# Altium footprint library GeneralComponents.PcbLib: 28 footprints (part 2 of 2)
Each footprint in its own frame and in the unit in brackets; x right, y up, seen from the top. Pads: shape width x height; smd on the part's side, far side on the other; paste and mask are expansions set on the pad; w line width, h text height; cw(c..) or ccw(c..) is an arc to the next point about the centre after c.
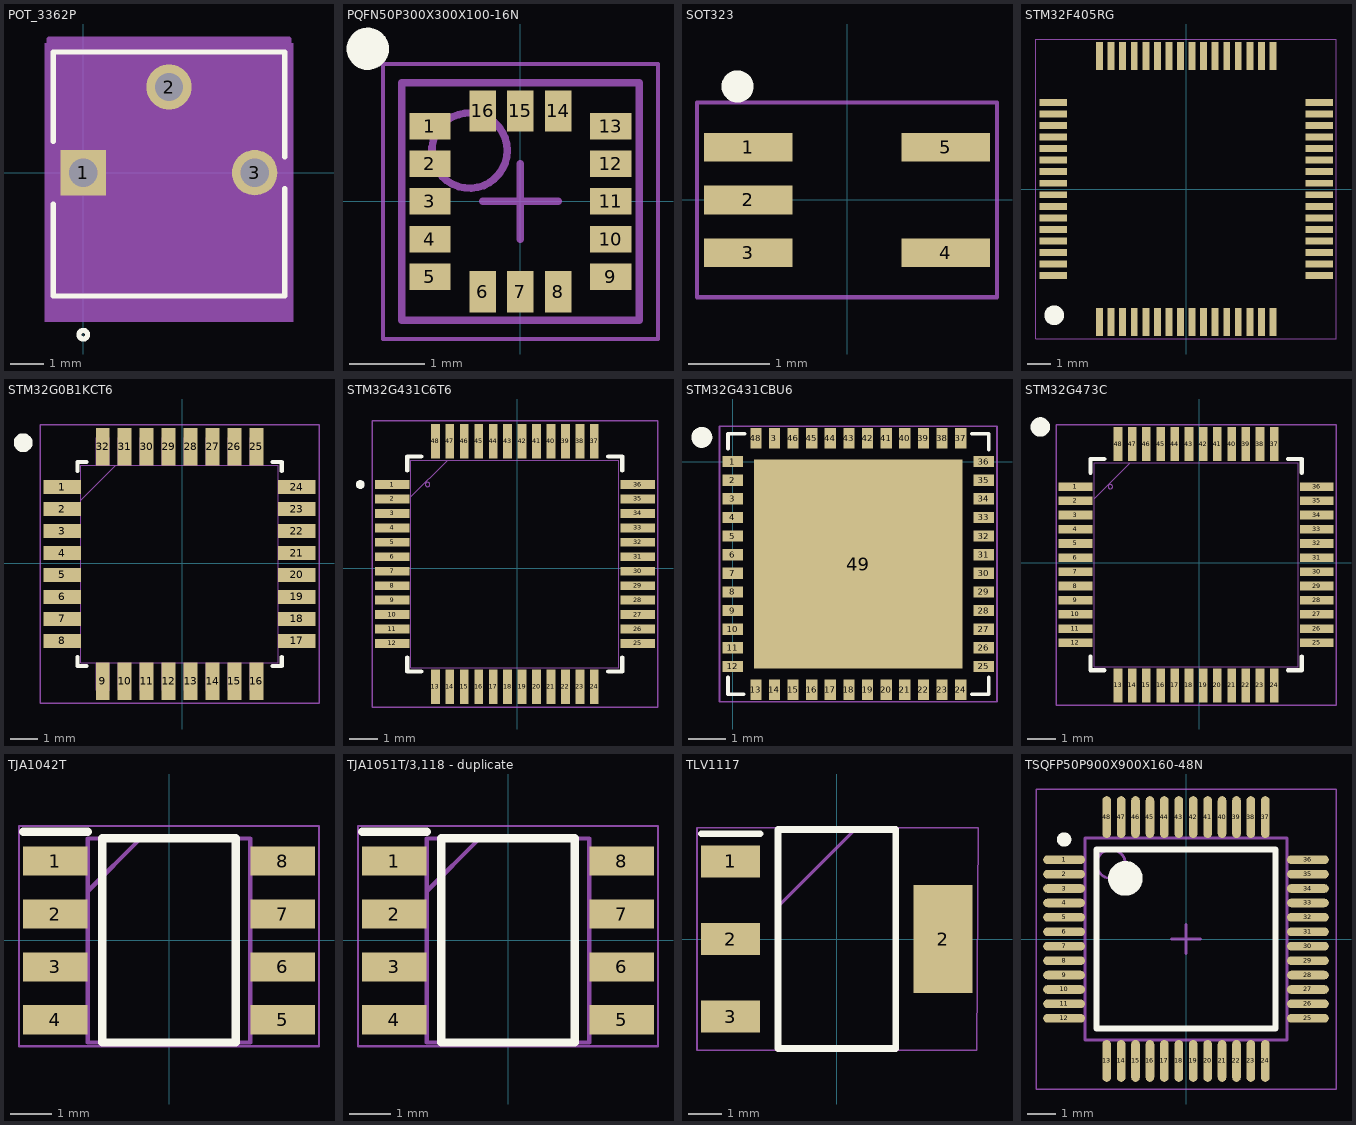
[diagram p1: the footprints below, top view; thin cyan lines are the x and y axes]

## POT_3362P [mil]
pads (3):
  rect 53x53 hole 33 mask+0: 1(0,0)
  round 53 hole 33 mask+0: 2(100,100) 3(200,0)
Top Overlay:
  circle w6: c0,-189 r5
  lines w6: -35,-36.47 -35,-144 235,-144 235,-18.52 ; -35,36.47 -35,141 235,141 235,18.52
Mechanical 5:
  region: -45,151 245,151 245,-174 -45,-174
Mechanical 13:
  circle w0: c0,-129 r5
  lines w1: -30,-139 230,-139 230,136 -30,136 -30,-139
Mechanical 15:
  region: 240,-159 -40,-159 -40,156 240,156
  lines w6: -40,-159 -40,156 240,156 240,-159 -40,-159
3D body: height 10, standoff 0, extent 0,0 10,10

## PQFN50P300X300X100-16N [mm] "PQFN, 16-Leads, Body 3.00x3.00mm, Pitch 0.50mm, IPC Medium Density"
height 1
pads (16):
  rect 0.55x0.35 smd: 1(-1.2,1) 2(-1.2,0.5) 3(-1.2,0) 4(-1.2,-0.5) 5(-1.2,-1) 9(1.2,-1) 10(1.2,-0.5) 11(1.2,0) 12(1.2,0.5) 13(1.2,1)
  rect 0.35x0.55 smd: 6(-0.5,-1.2) 7(0,-1.2) 8(0.5,-1.2) 14(0.5,1.2) 15(0,1.2) 16(-0.5,1.2)
Top Overlay:
  circle w0.3: c-2.025,2.025 r0.13
Mechanical 13:
  circle w0.1: c-0.675,0.675 r0.5
  lines w0.1: -1.575,-1.575 1.575,-1.575 1.575,1.575 -1.575,1.575 -1.575,-1.575
Mechanical 15:
  lines w0.05: -1.825,-1.825 1.825,-1.825 1.825,1.825 -1.825,1.825 -1.825,-1.825
  lines w0.1: -0.5,0 0.5,0 ; 0,-0.5 0,0.5
3D body "PQFN50P300X300X100-16N.step": height 1, standoff 0, extent -1.575,-1.575 1.575,1.575

## SOT323 [mil]
pads (5):
  rect 43x14 smd paste+0 mask+0: 1(-48,25.6) 2(-48,0) 3(-48,-25.6) 4(48,-25.6) 5(48,25.6)
Top Overlay:
  circle w10: c-53.15,55.12 r2.78
Mechanical 15:
  lines w1.97: -72.83,-47.24 72.83,-47.24 72.83,47.24 -72.83,47.24 -72.83,29.53 -72.83,-47.24
3D body "SOT323_TS4436AICT_STM.step": height 43.11, standoff 0, extent -47.52,-43.5 47.52,43.5

## STM32F405RG [mm]
pads (64):
  rect 0.3x1.2 smd: 1(-3.75,-5.75) 2(-3.25,-5.75) 3(-2.75,-5.75) 4(-2.25,-5.75) 5(-1.75,-5.75) 6(-1.25,-5.75) 7(-0.75,-5.75) 8(-0.25,-5.75) 9(0.25,-5.75) 10(0.75,-5.75) 11(1.25,-5.75) 12(1.75,-5.75) 13(2.25,-5.75) 14(2.75,-5.75) 15(3.25,-5.75) 16(3.75,-5.75) 33(3.75,5.75) 34(3.25,5.75) 35(2.75,5.75) 36(2.25,5.75) 37(1.75,5.75) 38(1.25,5.75) 39(0.75,5.75) 40(0.25,5.75) 41(-0.25,5.75) 42(-0.75,5.75) 43(-1.25,5.75) 44(-1.75,5.75) 45(-2.25,5.75) 46(-2.75,5.75) 47(-3.25,5.75) 48(-3.75,5.75)
  rect 1.2x0.3 smd: 17(5.75,-3.75) 18(5.75,-3.25) 19(5.75,-2.75) 20(5.75,-2.25) 21(5.75,-1.75) 22(5.75,-1.25) 23(5.75,-0.75) 24(5.75,-0.25) 25(5.75,0.25) 26(5.75,0.75) 27(5.75,1.25) 28(5.75,1.75) 29(5.75,2.25) 30(5.75,2.75) 31(5.75,3.25) 32(5.75,3.75) 49(-5.75,3.75) 50(-5.75,3.25) 51(-5.75,2.75) 52(-5.75,2.25) 53(-5.75,1.75) 54(-5.75,1.25) 55(-5.75,0.75) 56(-5.75,0.25) 57(-5.75,-0.25) 58(-5.75,-0.75) 59(-5.75,-1.25) 60(-5.75,-1.75) 61(-5.75,-2.25) 62(-5.75,-2.75) 63(-5.75,-3.25) 64(-5.75,-3.75)
Top Overlay:
  circle w0.7: c-5.715,-5.461 r0.075
Mechanical 15:
  lines w0.05: -6.5,-6.477 -6.5,6.477 6.477,6.477 6.477,-6.477 -6.5,-6.477
3D body "LQFP-64_10x10mm_P0.5mm.step": height 1.5, standoff 0, extent -6,-6 6,6

## STM32G0B1KCT6 [mil]
pads (32):
  rect 53.5x20 smd paste+0 mask+4.02: 1(-172.23,109.42) 2(-172.23,77.92) 3(-172.23,46.42) 4(-172.23,14.92) 5(-172.23,-16.58) 6(-172.23,-48.08) 7(-172.23,-79.58) 8(-172.23,-111.08) 17(164.27,-111.08) 18(164.27,-79.58) 19(164.27,-48.08) 20(164.27,-16.58) 21(164.27,14.92) 22(164.27,46.42) 23(164.27,77.92) 24(164.27,109.42)
  rect 20x53.5 smd paste+0 mask+4.02: 9(-114.23,-169.08) 10(-82.73,-169.08) 11(-51.23,-169.08) 12(-19.73,-169.08) 13(11.77,-169.08) 14(43.27,-169.08) 15(74.77,-169.08) 16(106.27,-169.08) 25(106.27,167.42) 26(74.77,167.42) 27(43.27,167.42) 28(11.77,167.42) 29(-19.73,167.42) 30(-51.23,167.42) 31(-82.73,167.42) 32(-114.23,167.42)
Top Overlay:
  circle w15: c-228.35,173.23 r6
  lines w6: -150.48,-134.18 -150.48,-147.33 -137.33,-147.33 ; -150.48,132.52 -150.48,145.67 -137.33,145.67 ; 129.37,-147.33 142.52,-147.33 142.52,-134.18 ; 129.37,145.67 142.52,145.67 142.52,132.52
Mechanical 13:
  lines w1: -145.48,90.67 -95.48,140.67 ; -184.98,-120.08 -184.98,-102.08 -145.48,-102.08 -145.48,-120.08 -184.98,-120.08 ; -184.98,-88.58 -184.98,-70.58 -145.48,-70.58 -145.48,-88.58 -184.98,-88.58 ; -184.98,-57.08 -184.98,-39.08 -145.48,-39.08 -145.48,-57.08 -184.98,-57.08 ; -184.98,-25.58 -184.98,-7.58 -145.48,-7.58 -145.48,-25.58 -184.98,-25.58 ; -184.98,5.92 -184.98,23.92 -145.48,23.92 -145.48,5.92 -184.98,5.92 ; -184.98,37.42 -184.98,55.42 -145.48,55.42 -145.48,37.42 -184.98,37.42 ; -184.98,68.92 -184.98,86.92 -145.48,86.92 -145.48,68.92 -184.98,68.92 ; -184.98,100.42 -184.98,118.42 -145.48,118.42 -145.48,100.42 -184.98,100.42 ; -145.48,-142.33 137.52,-142.33 137.52,140.67 -145.48,140.67 -145.48,-142.33 ; -123.23,-181.83 -123.23,-142.33 -105.23,-142.33 -105.23,-181.83 -123.23,-181.83 ; -123.23,140.67 -105.23,140.67 -105.23,180.17 -123.23,180.17 -123.23,140.67 ; -91.73,-181.83 -91.73,-142.33 -73.73,-142.33 -73.73,-181.83 -91.73,-181.83 ; -91.73,140.67 -73.73,140.67 -73.73,180.17 -91.73,180.17 -91.73,140.67 ; -60.23,-181.83 -60.23,-142.33 -42.23,-142.33 -42.23,-181.83 -60.23,-181.83 ; -60.23,140.67 -42.23,140.67 -42.23,180.17 -60.23,180.17 -60.23,140.67 ; -28.73,-181.83 -28.73,-142.33 -10.73,-142.33 -10.73,-181.83 -28.73,-181.83 ; -28.73,140.67 -10.73,140.67 -10.73,180.17 -28.73,180.17 -28.73,140.67 ; 2.77,-181.83 2.77,-142.33 20.77,-142.33 20.77,-181.83 2.77,-181.83 ; 2.77,140.67 20.77,140.67 20.77,180.17 2.77,180.17 2.77,140.67 ; 34.27,-181.83 34.27,-142.33 52.27,-142.33 52.27,-181.83 34.27,-181.83 ; 34.27,140.67 52.27,140.67 52.27,180.17 34.27,180.17 34.27,140.67 ; 65.77,-181.83 65.77,-142.33 83.77,-142.33 83.77,-181.83 65.77,-181.83 ; 65.77,140.67 83.77,140.67 83.77,180.17 65.77,180.17 65.77,140.67 ; 97.27,-181.83 97.27,-142.33 115.27,-142.33 115.27,-181.83 97.27,-181.83 ; 97.27,140.67 115.27,140.67 115.27,180.17 97.27,180.17 97.27,140.67 ; 137.52,-120.08 137.52,-102.08 177.02,-102.08 177.02,-120.08 137.52,-120.08 ; 137.52,-88.58 137.52,-70.58 177.02,-70.58 177.02,-88.58 137.52,-88.58 ; 137.52,-57.08 137.52,-39.08 177.02,-39.08 177.02,-57.08 137.52,-57.08 ; 137.52,-25.58 137.52,-7.58 177.02,-7.58 177.02,-25.58 137.52,-25.58 ; 137.52,5.92 137.52,23.92 177.02,23.92 177.02,5.92 137.52,5.92 ; 137.52,37.42 137.52,55.42 177.02,55.42 177.02,37.42 137.52,37.42 ; 137.52,68.92 137.52,86.92 177.02,86.92 177.02,68.92 137.52,68.92 ; 137.52,100.42 137.52,118.42 177.02,118.42 177.02,100.42 137.52,100.42
Mechanical 15:
  lines w1.97: -203.98,-200.83 -203.98,-157.33 -203.98,-126.08 -203.98,199.17 -134.23,199.17 126.27,199.17 196.02,199.17 196.02,120.36 196.02,-47.26 196.02,-200.83 -203.98,-200.83
3D body "LQFP_G0B1KCT6_STM.step": height 63.11, standoff 0, extent -184.96,-181.81 177.01,180.16

## STM32G431C6T6 [mil]
pads (48):
  rect 47x12 smd paste+0 mask+2.36: 1(-170.76,114.35) 2(-170.76,94.67) 3(-170.76,74.98) 4(-170.76,55.3) 5(-170.76,35.61) 6(-170.76,15.93) 7(-170.76,-3.76) 8(-170.76,-23.44) 9(-170.76,-43.13) 10(-170.76,-62.81) 11(-170.76,-82.5) 12(-170.76,-102.18) 25(163.88,-102.18) 26(163.88,-82.5) 27(163.88,-62.81) 28(163.88,-43.13) 29(163.88,-23.44) 30(163.88,-3.76) 31(163.88,15.93) 32(163.88,35.61) 33(163.88,55.3) 34(163.88,74.98) 35(163.88,94.67) 36(163.88,114.35)
  rect 12x47 smd paste+0 mask+2.36: 13(-111.71,-161.24) 14(-92.02,-161.24) 15(-72.34,-161.24) 16(-52.65,-161.24) 17(-32.97,-161.24) 18(-13.28,-161.24) 19(6.4,-161.24) 20(26.09,-161.24) 21(45.77,-161.24) 22(65.46,-161.24) 23(85.14,-161.24) 24(104.83,-161.24) 37(104.83,173.41) 38(85.14,173.41) 39(65.46,173.41) 40(45.77,173.41) 41(26.09,173.41) 42(6.4,173.41) 43(-13.28,173.41) 44(-32.97,173.41) 45(-52.65,173.41) 46(-72.34,173.41) 47(-92.02,173.41) 48(-111.71,173.41)
Top Overlay:
  circle w6: c-214.11,114.35 r3
  lines w6: -149.94,-121.28 -149.94,-140.41 -130.81,-140.41 ; -149.94,133.45 -149.94,152.59 -130.81,152.59 ; 123.93,-140.41 143.06,-140.41 143.06,-121.28 ; 123.93,152.59 143.06,152.59 143.06,133.45
Mechanical 13:
  circle w0: c-122.26,114.35 r3
  lines w1: -144.94,97.59 -94.94,147.59 ; -144.94,-135.41 138.06,-135.41 138.06,147.59 -144.94,147.59 -144.94,-135.41
Mechanical 15:
  lines w1.97: -197.44,-188.91 191.56,-188.91 191.56,-145.41 191.56,-122.18 191.56,201.09 148.06,201.09 124.83,201.09 -115.89,201.09 -170.76,201.09 -197.44,201.09 -197.44,-116.18 -197.44,-149.41 -197.44,-188.91
3D body "LQFP48-7x7mm.step": height 63.11, standoff 0, extent -180.49,-170.96 173.61,183.13

## STM32G431CBU6 [mm] "48-UFQFPN (7x7)"
pads (49):
  rect 0.55x0.3 smd mask+0.06: 1(0,0) 2(0,-0.5) 3(0,-1) 4(0,-1.5) 5(0,-2) 6(0,-2.5) 7(0,-3) 8(0,-3.5) 9(0,-4) 10(0,-4.5) 11(0,-5) 12(0,-5.5) 25(6.75,-5.5) 26(6.75,-5) 27(6.75,-4.5) 28(6.75,-4) 29(6.75,-3.5) 30(6.75,-3) 31(6.75,-2.5) 32(6.75,-2) 33(6.75,-1.5) 34(6.75,-1) 35(6.75,-0.5) 36(6.75,0)
  rect 0.3x0.55 smd mask+0.06: 3(1.125,0.625) 13(0.625,-6.125) 14(1.125,-6.125) 15(1.625,-6.125) 16(2.125,-6.125) 17(2.625,-6.125) 18(3.125,-6.125) 19(3.625,-6.125) 20(4.125,-6.125) 21(4.625,-6.125) 22(5.125,-6.125) 23(5.625,-6.125) 24(6.125,-6.125) 37(6.125,0.625) 38(5.625,0.625) 39(5.125,0.625) 40(4.625,0.625) 41(4.125,0.625) 42(3.625,0.625) 43(3.125,0.625) 44(2.625,0.625) 45(2.125,0.625) 46(1.625,0.625) 48(0.625,0.625)
  rect 5.6x5.6 smd: 49(3.375,-2.75)
Top Overlay:
  circle w0.3: c-0.825,0.65 r0.13
  lines w0.1: -0.125,-5.8 -0.125,-6.25 0.3,-6.25 ; -0.125,0.35 -0.125,0.75 0.325,0.75 ; 6.425,-6.25 6.875,-6.25 6.875,-5.8 ; 6.425,0.75 6.875,0.75 6.875,0.325
Mechanical 15:
  lines w0.05: -0.35,-6.45 -0.35,0 -0.35,0.95 7.1,0.95 7.1,-6.45 -0.35,-6.45
3D body "QFN-48-1EP_7x7mm_P0.5mm_EP5.6x5.6mm.step": height 1.1, standoff 0, extent -0.125,-6.25 6.875,0.75

## STM32G473C [mil]
pads (48):
  rect 47x12 smd paste+0 mask+2.36: 1(-171.7,105.36) 2(-171.7,85.68) 3(-171.7,65.99) 4(-171.7,46.31) 5(-171.7,26.62) 6(-171.7,6.94) 7(-171.7,-12.75) 8(-171.7,-32.43) 9(-171.7,-52.12) 10(-171.7,-71.8) 11(-171.7,-91.49) 12(-171.7,-111.17) 25(162.94,-111.17) 26(162.94,-91.49) 27(162.94,-71.8) 28(162.94,-52.12) 29(162.94,-32.43) 30(162.94,-12.75) 31(162.94,6.94) 32(162.94,26.62) 33(162.94,46.31) 34(162.94,65.99) 35(162.94,85.68) 36(162.94,105.36)
  rect 12x47 smd paste+0 mask+2.36: 13(-112.65,-170.23) 14(-92.96,-170.23) 15(-73.28,-170.23) 16(-53.59,-170.23) 17(-33.91,-170.23) 18(-14.22,-170.23) 19(5.46,-170.23) 20(25.15,-170.23) 21(44.83,-170.23) 22(64.52,-170.23) 23(84.2,-170.23) 24(103.89,-170.23) 37(103.89,164.42) 38(84.2,164.42) 39(64.52,164.42) 40(44.83,164.42) 41(25.15,164.42) 42(5.46,164.42) 43(-14.22,164.42) 44(-33.91,164.42) 45(-53.59,164.42) 46(-73.28,164.42) 47(-92.96,164.42) 48(-112.65,164.42)
Top Overlay:
  circle w15: c-220.38,188.09 r6
  lines w6: -150.88,-130.27 -150.88,-149.41 -131.75,-149.41 ; -150.88,124.46 -150.88,143.59 -131.75,143.59 ; 122.99,-149.41 142.12,-149.41 142.12,-130.27 ; 122.99,143.59 142.12,143.59 142.12,124.46
Mechanical 13:
  circle w0: c-123.2,105.36 r3
  lines w1: -145.88,88.59 -95.88,138.59 ; -145.88,-144.41 -145.88,138.59 137.12,138.59 137.12,-144.41 -145.88,-144.41
Mechanical 15:
  lines w1.97: -198.38,-197.91 189.62,-197.91 189.62,191.09 92.62,191.09 -101.38,191.09 -198.38,191.09 -198.38,-197.91
3D body "LQFP48-7x7mm.step": height 63.11, standoff 0, extent -181.43,-179.95 172.67,174.14

## TJA1042T [mm] "SOIC127P600X175-8N"
height 1.75
pads (8):
  rect 1.55x0.7 smd: 1(-2.725,1.905) 2(-2.725,0.635) 3(-2.725,-0.635) 4(-2.725,-1.905) 5(2.725,-1.905) 6(2.725,-0.635) 7(2.725,0.635) 8(2.725,1.905)
Top Overlay:
  lines w0.2: -3.5,2.605 -1.95,2.605 ; -1.6,-2.45 -1.6,2.45 1.6,2.45 1.6,-2.45 -1.6,-2.45
Mechanical 13:
  lines w0.1: -1.95,1.18 -0.68,2.45 ; -1.95,-2.45 -1.95,2.45 1.95,2.45 1.95,-2.45 -1.95,-2.45
Mechanical 15:
  lines w0.05: -3.6,-2.54 -3.6,2.75 3.6,2.75 3.6,-2.54 -3.6,-2.54
3D body "TJA1042T_3,118.stp": height 1.75, standoff 0, extent -3,-2.45 3,2.45

## TJA1051T/3,118 - duplicate [mm] "SOIC127P600X175-8N"
height 1.75
pads (8):
  rect 1.55x0.7 smd: 1(-2.725,1.905) 2(-2.725,0.635) 3(-2.725,-0.635) 4(-2.725,-1.905) 5(2.725,-1.905) 6(2.725,-0.635) 7(2.725,0.635) 8(2.725,1.905)
Top Overlay:
  lines w0.2: -3.5,2.605 -1.95,2.605 ; -1.6,-2.45 -1.6,2.45 1.6,2.45 1.6,-2.45 -1.6,-2.45
Mechanical 13:
  lines w0.1: -1.95,1.18 -0.68,2.45 ; -1.95,-2.45 -1.95,2.45 1.95,2.45 1.95,-2.45 -1.95,-2.45
Mechanical 15:
  lines w0.05: -3.6,-2.54 -3.6,2.75 3.6,2.75 3.6,-2.54 -3.6,-2.54
3D body "TJA1051T.stp": height 1.75, standoff 0, extent -3,-2.45 3,2.45

## TLV1117 [mm] "SOT230P700X180-4N"
height 1.8
pads (4):
  rect 1.75x0.95 smd: 1(-3.15,2.3) 2(-3.15,0) 3(-3.15,-2.3)
  rect 1.75x3.2 smd: 2(3.15,0)
Top Overlay:
  lines w0.2: -4.025,3.125 -2.275,3.125 ; -1.75,-3.25 -1.75,3.25 1.75,3.25 1.75,-3.25 -1.75,-3.25
Mechanical 13:
  lines w0.1: -1.75,0.95 0.55,3.25 ; -1.75,-3.25 -1.75,3.25 1.75,3.25 1.75,-3.25 -1.75,-3.25
Mechanical 15:
  lines w0.05: -4.15,-3.302 -4.15,3.302 4.191,3.302 4.15,-3.302 -4.15,-3.302
3D body "TLV1117-33CDCYR.stp": height 1.8, standoff 0, extent -3.5,-3.25 3.5,3.25

## TSQFP50P900X900X160-48N [mm] "TSQFP, 48-Leads, Body 7.00x7.00mm, Pitch 0.50mm, IPC Medium Density"
height 1.6
pads (48):
  oval 1.45x0.3 smd: 1(-4.225,2.75) 2(-4.225,2.25) 3(-4.225,1.75) 4(-4.225,1.25) 5(-4.225,0.75) 6(-4.225,0.25) 7(-4.225,-0.25) 8(-4.225,-0.75) 9(-4.225,-1.25) 10(-4.225,-1.75) 11(-4.225,-2.25) 12(-4.225,-2.75) 25(4.225,-2.75) 26(4.225,-2.25) 27(4.225,-1.75) 28(4.225,-1.25) 29(4.225,-0.75) 30(4.225,-0.25) 31(4.225,0.25) 32(4.225,0.75) 33(4.225,1.25) 34(4.225,1.75) 35(4.225,2.25) 36(4.225,2.75)
  oval 0.3x1.45 smd: 13(-2.75,-4.225) 14(-2.25,-4.225) 15(-1.75,-4.225) 16(-1.25,-4.225) 17(-0.75,-4.225) 18(-0.25,-4.225) 19(0.25,-4.225) 20(0.75,-4.225) 21(1.25,-4.225) 22(1.75,-4.225) 23(2.25,-4.225) 24(2.75,-4.225) 37(2.75,4.225) 38(2.25,4.225) 39(1.75,4.225) 40(1.25,4.225) 41(0.75,4.225) 42(0.25,4.225) 43(-0.25,4.225) 44(-0.75,4.225) 45(-1.25,4.225) 46(-1.75,4.225) 47(-2.25,4.225) 48(-2.75,4.225)
Top Overlay:
  circle w0.6: c-2.1,2.1 r0.3
  circle w0.25: c-4.225,3.45 r0.125
  lines w0.2: -3.1,-3.1 3.1,-3.1 3.1,3.1 -3.1,3.1 -3.1,-3.1
Mechanical 13:
  circle w0.1: c-2.6,2.6 r0.5
  lines w0.1: -3.5,-3.5 3.5,-3.5 3.5,3.5 -3.5,3.5 -3.5,-3.5
Mechanical 15:
  lines w0.05: -5.2,-5.2 5.2,-5.2 5.2,5.2 -5.2,5.2 -5.2,-5.2
  lines w0.1: -0.5,0 0.5,0 ; 0,-0.5 0,0.5
3D body "TSQFP50P900X900X160-48N.step": height 1.6, standoff 0, extent -4.5,-4.5 4.5,4.5